# EAGLE library part USB (library Namenlos)
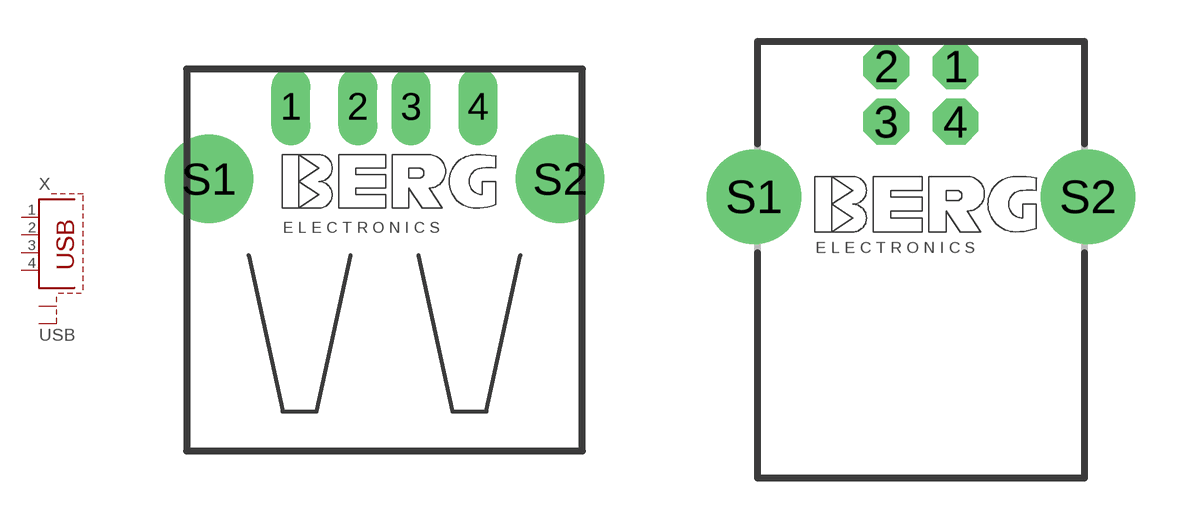
[diagram p38: symbol with the pads of PN87520-S; footprints PN87520-S, PN61729-S]

Designator prefix X

## USBAF (OC_FARNELL: unknown; OC_NEWARK: unknown)  [PN87520-S]
1  VCC  pas
2  D-  pas
3  D+  pas
4  GND  pas
S1  S1  pas
S2  S2  pas

## USBBF  [PN61729-S]
Pads as for PN87520-S

## Footprint PN87520-S (pad centres in mm)
USB connector with shield
drill 0.95 long: 1 -3.5,2.71; 2 -1,2.71; 3 1,2.71; 4 3.5,2.71
drill 2.3 pad 2.9: S1 -6.57,0; S2 6.57,0

## Footprint PN61729-S (pad centres in mm)
USB connector with shield
drill 1.1 octagon: 1 1.25,4.71; 2 -1.25,4.71; 3 -1.25,2.71; 4 1.25,2.71
drill 2.4 pad 2.9: S1 -6.02,0; S2 6.02,0